# EAGLE library part ESP-01 (library reclone-rise)
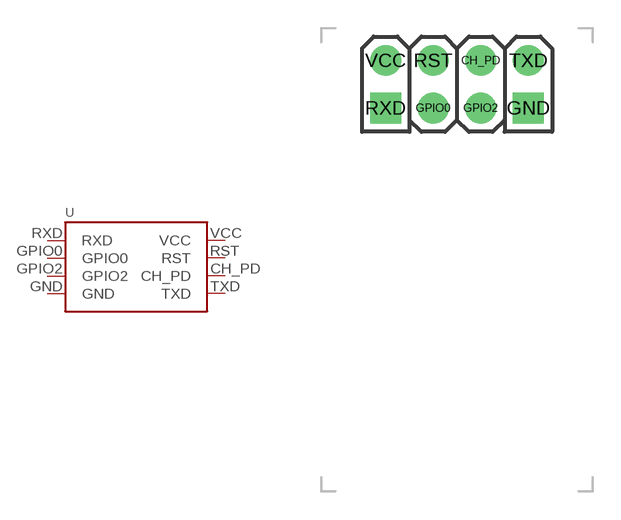
[diagram p17: symbol with the pads of ESP-01; footprint ESP-01]

Designator prefix -

## ESP-01  [ESP-01]
CH_PD  CH_PD
GND  GND
GPIO0  GPIO0
GPIO2  GPIO2
RST  RST
RXD  RXD
TXD  TXD
VCC  VCC

## Footprint ESP-01 (pad centres in mm)
drill 1.016 pad 1.651: CH_PD 1.27,1.27; GPIO0 -1.27,-1.27; GPIO2 1.27,-1.27; RST -1.27,1.27; TXD 3.81,1.27; VCC -3.81,1.27
drill 1.016 pad 1.651 square: GND 3.81,-1.27; RXD -3.81,-1.27